# Altium footprint library PcbLib1.PcbLib: 1 footprints
Each footprint in its own frame and in the unit in brackets; x right, y up, seen from the top. Pads: shape width x height; smd on the part's side, far side on the other; paste and mask are expansions set on the pad; w line width, h text height; cw(c..) or ccw(c..) is an arc to the next point about the centre after c.
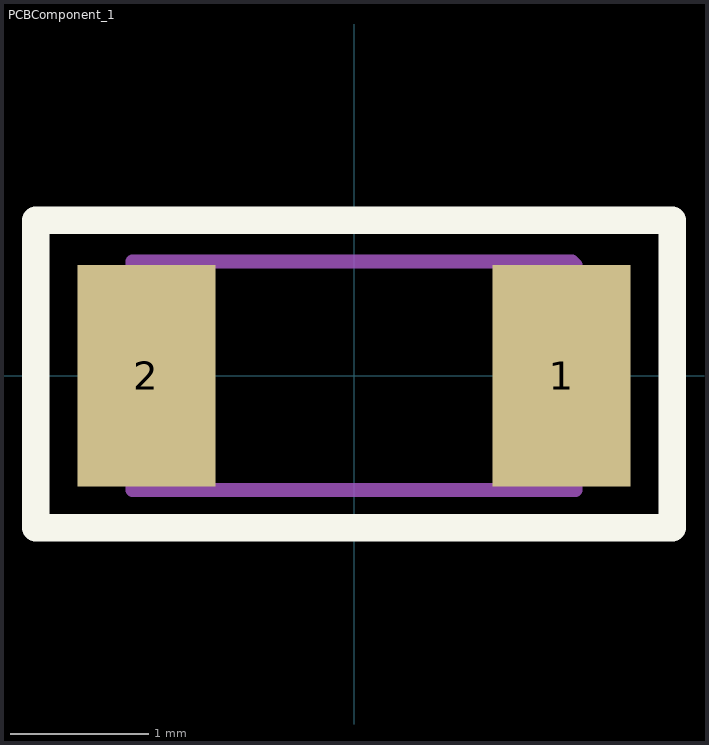
[diagram p0: the footprint, top view; thin cyan lines are the x and y axes]

## PCBComponent_1 [mm]
pads (2):
  rect 1x1.6 smd: 1(1.5,0) 2(-1.5,0)
Top Overlay:
  lines w0.2: -2.3,-1.1 2.3,-1.1 2.3,1.125 -2.3,1.125 -2.3,-1.1
Top Assy:
  lines w0.1: 1.575,0.825 -1.6,0.825 -1.6,-0.825 1.6,-0.825 1.6,0.8
3D Model:
  lines w0.1: -1.6,-0.227 -1.597,-0.23 ; -1.6,0.331 -1.599,0.332 ; 1.575,0.825 1.6,0.8 ; 1.595,-0.229 1.596,-0.23
Border:
  lines w0.1: -2.3,-1.1 2.3,-1.1 2.3,1.1 -2.3,1.1 -2.3,-1.1
3D body "CircuitWorks-RESISTOR 1206.STEP": height 0.53, standoff -0.03, extent -1.6,-0.83 1.6,0.83